# Altium footprint library Gelnar.PcbLib: 295 footprints (part 12 of 19)
Each footprint in its own frame and in the unit in brackets; x right, y up, seen from the top. Pads: shape width x height; smd on the part's side, far side on the other; paste and mask are expansions set on the pad; w line width, h text height; cw(c..) or ccw(c..) is an arc to the next point about the centre after c.
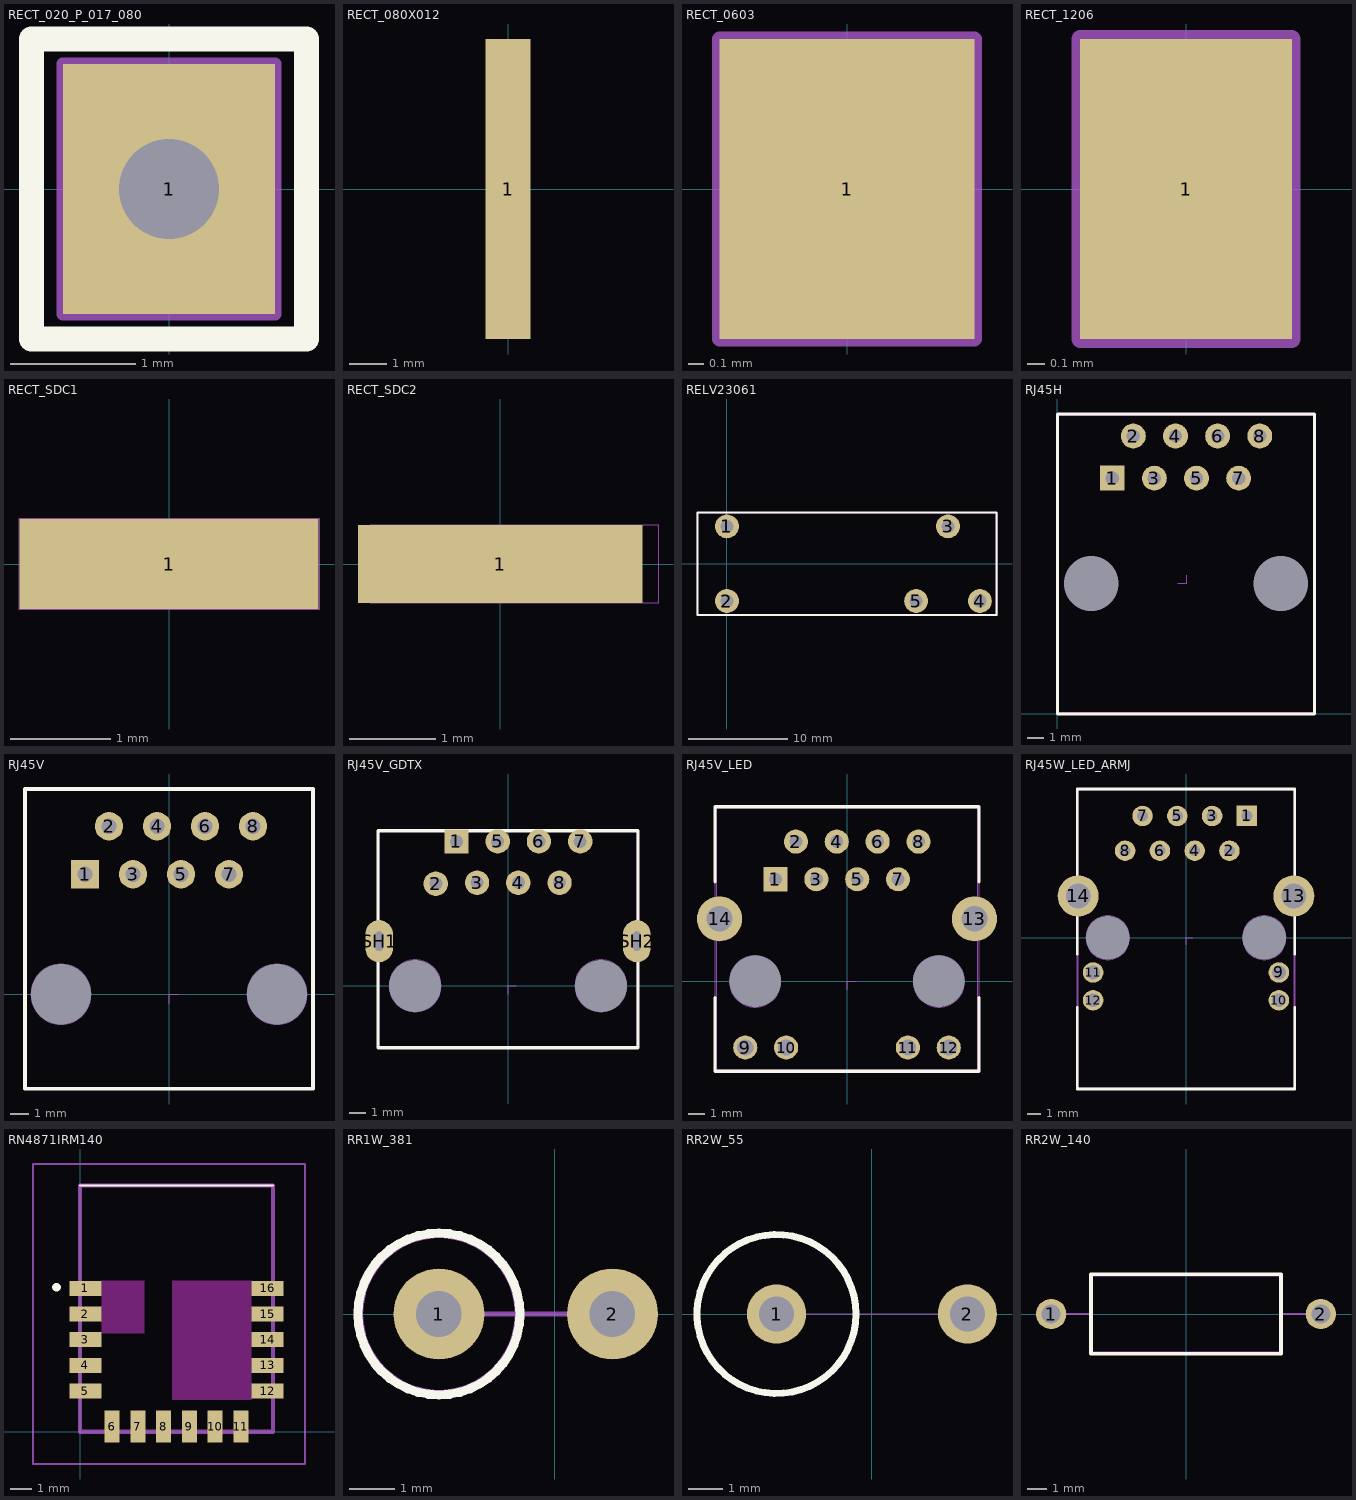
[diagram p11: the footprints below, top view; thin cyan lines are the x and y axes]

## RECT_020_P_017_080 [mm]
pads (1):
  rect 1.7x2 hole 0.8 mask+0.05: 1(0,0)
Top Overlay:
  lines w0.2: -1.1,-1.2 1.1,-1.2 1.1,1.2 -1.1,1.2 -1.1,-1.2
Mechanical 15:
  lines w0.1: -0.85,-1 0.85,-1 0.85,1 -0.85,1 -0.85,-1
Multi-Layer:
  text "Value" at -1.108,-1.25 h0.75

## RECT_080X012 [mm]
pads (1):
  rect 1.2x8 / inner rrect100% 0x0 / far side rect 1.2x8 all layers, no hole mask+0.05: 1(0,0)
Mechanical 19:
  lines w0.1: -0.381,-0.508 0.381,-0.508 0.381,0.508 -0.381,0.508 -0.381,-0.508

## RECT_0603 [mm]
pads (1):
  rect 1.7x2 all layers, no hole mask+0.05: 1(0,0)
Mechanical 15:
  lines w0.1: -0.85,-1 0.85,-1 0.85,1 -0.85,1 -0.85,-1
Mechanical 19:
  lines w0.1: -0.381,-0.508 0.381,-0.508 0.381,0.508 -0.381,0.508 -0.381,-0.508

## RECT_1206 [mm]
pads (1):
  rect 1.2x1.7 smd mask+0.05: 1(0,0)
Mechanical 15:
  lines w0.1: -0.6,-0.85 0.6,-0.85 0.6,0.85 -0.6,0.85 -0.6,-0.85
Multi-Layer:
  text "Value" at -1.108,-1.25 h0.75
Mechanical 19:
  lines w0.1: -0.6,-0.85 0.6,-0.85 0.6,0.85 -0.6,0.85 -0.6,-0.85

## RECT_SDC1 [mm]
pads (1):
  rect 3x0.9 smd mask+0.05: 1(0,0)
Mechanical 15:
  lines w0.01: -1.503,-0.457 1.503,-0.457 1.503,0.457 -1.503,0.457 -1.503,-0.457
Multi-Layer:
  text "Value" at -1.108,-1.25 h0.75

## RECT_SDC2 [mm]
pads (1):
  rect 3.3x0.9 smd mask+0.05: 1(0,0)
Mechanical 15:
  lines w0.01: -1.503,-0.457 1.83,-0.457 1.83,0.457 -1.503,0.457 -1.503,-0.457
Multi-Layer:
  text "Value" at -1.108,-1.25 h0.75

## RELV23061 [mm]
height 15
pads (5):
  round 2.4 hole 1.3 mask+0.1: 1(0,3.75) 2(0,-3.75) 3(22.2,3.75) 4(25.4,-3.75) 5(19,-3.75)
Top Overlay:
  lines w0.2: -2.941,-5.163 27.055,-5.163 27.055,5.163 -2.941,5.163 -2.941,-5.163
Mechanical 15:
  lines w0.01: -2.941,-5.163 27.055,-5.163 27.055,5.097 -2.941,5.097 -2.941,-5.163
Multi-Layer:
  text "Value" at 0.162,-2.139 h0.75
Mechanical 20:
  lines w0.01: -3.006,-5.228 27.12,-5.228 27.12,5.163 -3.006,5.163 -3.006,-5.228

## RJ45H [mm]
pads (10):
  rect 1.5x1.5 hole 0.8 mask+0.1: 1(3.302,14.209)
  round 1.5 hole 0.8 mask+0.1: 2(4.572,16.749) 3(5.842,14.209) 4(7.112,16.749) 5(8.382,14.209) 6(9.652,16.749) 7(10.922,14.209) 8(12.192,16.749)
  round 0 hole 3.3 unplated: HL1(2.032,7.859) HL2(13.462,7.859)
Top Overlay:
  lines w0.2: 0,8.85 0,18.075 15.494,18.075 15.494,8.8 ; 0,9.065 0,0 15.494,0 15.494,9.065
Mechanical 15:
  circle w0.01: c13.462,7.859 r1.6
  circle w0.01: c2.032,7.859 r1.6
  lines w0.01: 0.064,0.064 15.43,0.064 15.43,18 0.064,18 0.064,0.064
Mechanical 16:
  circle w0.01: c13.462,7.859 r1.6
  circle w0.01: c2.032,7.859 r1.6
Multi-Layer:
  text "Value" at 5.931,5.098 h0.75
Mechanical 19:
  lines w0.01: 7.239,7.859 7.747,7.859 7.747,8.367
Mechanical 20:
  lines w0.01: 0,0 15.494,0 15.494,18.075 0,18.075 0,0

## RJ45V [mm]
pads (10):
  rect 1.5x1.5 hole 0.8 mask+0.1: 1(-4.445,6.35)
  round 1.5 hole 0.8 mask+0.1: 2(-3.175,8.89) 3(-1.905,6.35) 4(-0.635,8.89) 5(0.635,6.35) 6(1.905,8.89) 7(3.175,6.35) 8(4.445,8.89)
  round 0 hole 3.2 unplated: HL1(5.715,0) HL2(-5.715,0)
Top Overlay:
  lines w0.2: -7.62,-1.016 -7.62,10.858 7.62,10.858 7.62,-0.953 ; -7.62,-1 -7.62,-5 7.62,-5 7.62,-1
Mechanical 15:
  circle w0.01: c-5.715,0 r1.6
  circle w0.01: c5.715,0 r1.6
  lines w0.01: -7.62,-4.953 7.62,-4.953 7.62,10.795 -7.62,10.795 -7.62,-4.953
Mechanical 16:
  circle w0.01: c-5.715,0 r1.6
  circle w0.01: c5.715,0 r1.6
Multi-Layer:
  text "Value" at -0.809,-2.515 h0.75
Mechanical 19:
  lines w0.01: 0,-0.508 0,0 0.508,0
Mechanical 20:
  lines w0.01: -7.683,-5.016 7.683,-5.016 7.683,10.858 -7.683,10.858 -7.683,-5.016

## RJ45V_GDTX [mm]
height 13.3
pads (12):
  rect 1.5x1.5 hole 0.8 mask+0.1: 1(-3.175,8.89)
  round 1.5 hole 0.8 mask+0.1: 2(-4.445,6.286) 3(-1.905,6.35) 4(0.635,6.35) 5(-0.635,8.89) 6(1.905,8.89) 7(4.445,8.89) 8(3.175,6.35)
  round 0 hole 3.2 unplated: HL1(5.715,0) HL2(-5.715,0)
  oval 1.7x2.6 hole 0.5 slot 1.2 at 90 deg mask+0.05: SH1(-7.938,2.75) SH2(7.938,2.75)
Top Overlay:
  lines w0.2: -8.001,-3.81 8.001,-3.81 8.001,9.55 -8.001,9.55 -8.001,-3.81
Mechanical 15:
  circle w0.01: c-5.715,0 r1.6
  circle w0.01: c5.715,0 r1.6
  lines w0.01: -7.938,-3.81 7.938,-3.81 7.938,9.525 -7.938,9.525 -7.938,-3.81
Mechanical 16:
  circle w0.01: c-5.715,0 r1.6
  circle w0.01: c5.715,0 r1.6
Multi-Layer:
  text "Value" at -0.809,-2.515 h0.75
Mechanical 19:
  lines w0.01: 0,-0.508 0,0 0.508,0
Mechanical 20:
  lines w0.01: -8.001,-3.873 8.001,-3.873 8.001,9.588 -8.001,9.588 -8.001,-3.873

## RJ45V_LED [mm]
pads (16):
  rect 1.5x1.5 hole 0.8 mask+0.1: 1(-4.445,6.35)
  round 1.5 hole 0.8 mask+0.1: 2(-3.175,8.69) 3(-1.905,6.35) 4(-0.635,8.69) 5(0.635,6.35) 6(1.905,8.69) 7(3.175,6.35) 8(4.445,8.69)
  round 1.5 hole 1 mask+0.1: 9(-6.325,-4.11) 10(-3.785,-4.11) 11(3.785,-4.11) 12(6.325,-4.11)
  round 2.8 hole 1.6 mask+0.05: 13(7.925,3.89) 14(-7.925,3.89)
  round 0 hole 3.2 unplated: HL1(5.715,0) HL2(-5.715,0)
Top Overlay:
  lines w0.2: -8.2,-1 -8.2,-5.588 8.2,-5.588 8.2,-1 ; -8.2,6.2 -8.2,10.858 8.2,10.858 8.2,6.2
Mechanical 15:
  circle w0.01: c-5.715,0 r1.6
  circle w0.01: c5.715,0 r1.6
  lines w0.01: -8.1,-5.524 8.1,-5.524 8.1,10.795 -8.1,10.795 -8.1,-5.524
Mechanical 16:
  circle w0.01: c-5.715,0 r1.6
  circle w0.01: c5.715,0 r1.6
Multi-Layer:
  text "Value" at -0.809,-2.515 h0.75
Mechanical 19:
  lines w0.01: 0,-0.508 0,0 0.508,0
Mechanical 20:
  lines w0.01: -8.2,-5.588 8.2,-5.588 8.2,10.858 -8.2,10.858 -8.2,-5.588

## RJ45W_LED_ARMJ [mm]
pads (16):
  rect 1.5x1.5 hole 0.8 mask+0.1: 1(4.445,8.89)
  round 1.5 hole 0.8 mask+0.1: 2(3.175,6.35) 3(1.905,8.89) 4(0.635,6.35) 5(-0.635,8.89) 6(-1.905,6.35) 7(-3.175,8.89) 8(-4.445,6.35)
  round 1.5 hole 1 mask+0.1: 9(6.785,-2.54) 10(6.785,-4.57) 11(-6.785,-2.54) 12(-6.785,-4.57)
  round 3 hole 1.8 mask+0.1: 13(7.874,3.048) 14(-7.874,3.048)
  round 0 hole 3.2 unplated: HL1(5.715,0) HL2(-5.715,0)
Top Overlay:
  lines w0.2: -7.938,-5.08 -7.938,-11.049 7.938,-11.049 7.938,-5.08 ; -7.938,-1.206 -7.938,10.858 7.938,10.858 7.938,-1.206
Mechanical 15:
  circle w0.01: c-5.715,0 r1.6
  circle w0.01: c5.715,0 r1.6
  lines w0.01: -7.874,-10.986 7.874,-10.986 7.874,10.795 -7.874,10.795 -7.874,-10.986
Mechanical 16:
  circle w0.01: c-5.715,0 r1.6
  circle w0.01: c5.715,0 r1.6
Multi-Layer:
  text "Value" at -0.854,1.811 h0.75
Mechanical 19:
  lines w0.01: 0,-0.508 0,0 0.508,0
Mechanical 20:
  lines w0.01: -7.938,-11.049 7.938,-11.049 7.938,10.858 -7.938,10.858 -7.938,-11.049

## RN4871IRM140 [mm]
pads (16):
  rect 1.5x0.7 smd: 1(0.25,6.7) 2(0.25,5.5) 3(0.25,4.3) 4(0.25,3.1) 5(0.25,1.9) 12(8.75,1.9) 13(8.75,3.1) 14(8.75,4.3) 15(8.75,5.5) 16(8.75,6.7)
  rect 0.7x1.5 smd: 6(1.5,0.25) 7(2.7,0.25) 8(3.9,0.25) 9(5.1,0.25) 10(6.3,0.25) 11(7.5,0.25)
L1-Top Layer keep-out:
  region: 1,7.048 3,7.048 3,4.6 1,4.6
  region: 4.3,7.048 8,7.048 8,1.5 4.3,1.5
Top Overlay:
  lines w0.1: 0,11.5 9,11.5
  lines w0.2: -1.2,6.75 cw(c-1.1,6.75) -1,6.75 ; -1.2,6.75 -1.2,6.75 ; -1.2,6.75 ccw(c-1.1,6.75) -1,6.75 ; -1,6.75 -1,6.75
Mechanical 15:
  lines w0.2: 0,0 9,0 9,11.5 0,11.5 0,0
Mechanical 20:
  lines w0.1: -2.2,-1.5 10.5,-1.5 10.5,12.5 -2.2,12.5 -2.2,-1.5

## RR1W_381 [mm]
height 9.5
pads (2):
  round 2 hole 1 mask+0.05: 1(-2.54,0) 2(1.27,0)
Top Overlay:
  circle w0.2: c-2.54,0 r1.778
Mechanical 15:
  circle w0.1: c-2.54,0 r1.714
  lines w0.1: -2.54,0 1.27,0
Mechanical 20:
  circle w0.1: c-2.54,0 r1.778

## RR2W_55 [mm]
height 9.5
pads (2):
  round 1.7 hole 1 mask+0.05: 1(-2.745,0) 2(2.745,0)
Top Overlay:
  circle w0.2: c-2.745,0 r2.286
Mechanical 15:
  circle w0.01: c-2.745,0 r2.222
  lines w0.01: -2.745,0 2.745,0
Mechanical 20:
  circle w0.01: c-2.745,0 r2.286

## RR2W_140 [mm]
height 9.5
pads (2):
  round 1.6 hole 1 mask+0.05: 1(-7.112,0) 2(7.112,0)
Top Overlay:
  lines w0.2: -5.016,-2.095 5.016,-2.095 5.016,2.095 -5.016,2.095 -5.016,-2.095
Mechanical 15:
  lines w0.1: -7.112,0 -4.953,0 ; 4.953,0 7.048,0 ; -4.953,-2.032 4.953,-2.032 4.953,2.032 -4.953,2.032 -4.953,-2.032
Multi-Layer:
  text "Value" at -1.108,-1.353 h0.75
Mechanical 20:
  lines w0.1: -5.016,-2.095 5.016,-2.095 5.016,2.095 -5.016,2.095 -5.016,-2.095